# Altium schematic symbol library fuses.SchLib: 6 symbols
Pins are listed as number, name and electrical type; pins without a type are passive.

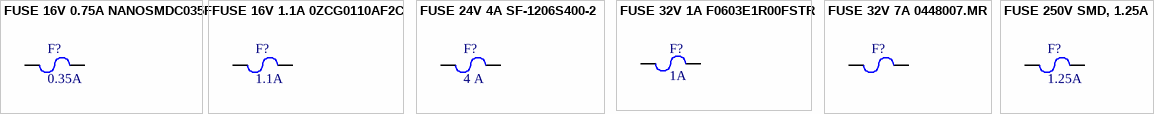
[diagram p0: symbols FUSE 16V 0.75A NANOSMDC035F to FUSE 250V SMD, 1.25A]

## FUSE 16V 0.75A NANOSMDC035F
designator F?, comment 0.35A
PPTC 0.75A RESETTABLE SMD FUSE; Manufacturer: TE Connectivity (Tyco Electronics); Manufacturer Part Number: NANOSMDC035F-2; Created by: Nils Minor; Value: 0.35A
footprint NANOSMDC035F (SMD-Sicherung)
pins: 1, 2

## FUSE 16V 1.1A 0ZCG0110AF2C
designator F?, comment 1.1A
PTC RESTTBLE 1.10A 16V CHIP 1812; Manufacturer: Bel; Manufacturer Part Number: 0ZCG0110AF2C; Created by: Nils Minor; Value: 1.1A
footprint STACKPOLE 1812/4532 (Chip Resistor, 2-Leads, Body 4.55x3.24mm, IPC Medium Density)
pins: 1, 2

## FUSE 24V 4A SF-1206S400-2
designator F?, comment 4 A
FUSE 4A 24V SLOW; Manufacturer: Bourncs Inc.; Manufacturer Part Number: SF-1206S400-2; Created by: Nils Minor; Value: 4 A
footprint RES 1206/3216 (Chip Resistor, 2-Leads, Body 3.13x1.55mm, IPC Medium Density)
pins: 1, 2

## FUSE 32V 1A F0603E1R00FSTR
designator F?, comment 1A
Sicherung 1A flink; Manufacturer: AVX; Manufacturer Part Number: F0603E1R00FSTR; Created by: Nils Minor; Value: 1A
footprint STACKPOLE CSR0603 (Chip Resistor, 2-Leads, Body 1.60x0.80mm, IPC Medium Density)
pins: 1, 2

## FUSE 32V 7A 0448007.MR
designator F?
Sicherungen zur Aufbaumontage 125VAC 7A .009ohms 448 NANO2; Manufacturer: Little Fuse; Manufacturer Part Number: FUSE 32V 7A 0448007.MR; Created by: Nils Minor
footprint 0448007.MR
pins: 1, 2

## FUSE 250V SMD, 1.25A
designator F?, comment 1.25A
SICHERUNG 250V SMD, 1.25A; Manufacturer: Schurter; Manufacturer Part Number: 3405.0167.24; Created by: Nils Minor; Value: 1.25A
footprint 3405016724
pins: 1, 2